# Altium footprint library HDDR_19x1_0.PcbLib: 1 footprints
Each footprint in its own frame and in the unit in brackets; x right, y up, seen from the top. Pads: shape width x height; smd on the part's side, far side on the other; paste and mask are expansions set on the pad; w line width, h text height; cw(c..) or ccw(c..) is an arc to the next point about the centre after c.
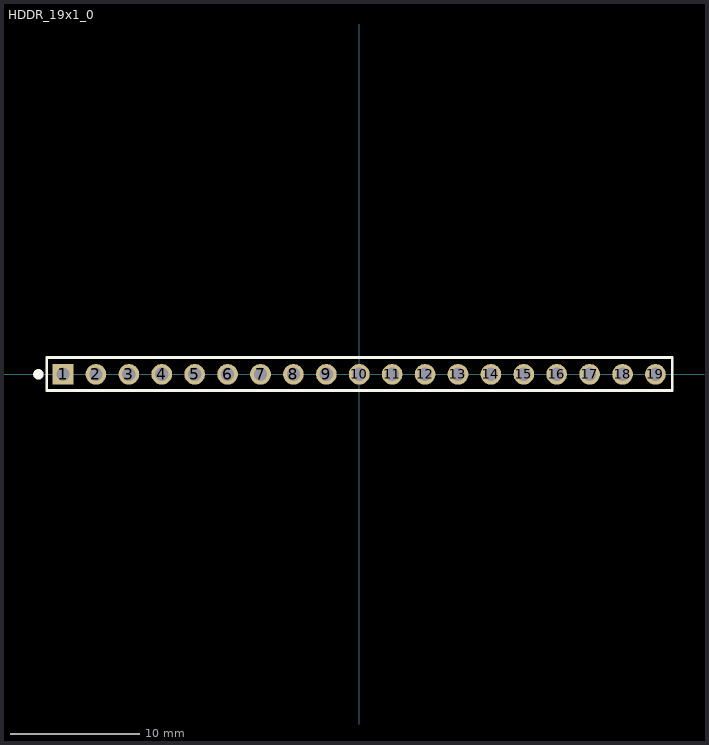
[diagram p0: the footprint, top view; thin cyan lines are the x and y axes]

## HDDR_19x1_0 [mm]
pads (19):
  rect 1.6x1.6 hole 1.02: 1(-22.86,0)
  round 1.6 hole 1.02: 2(-20.32,0) 3(-17.78,0) 4(-15.24,0) 5(-12.7,0) 6(-10.16,0) 7(-7.62,0) 8(-5.08,0) 9(-2.54,0) 10(0,0) 11(2.54,0) 12(5.08,0) 13(7.62,0) 14(10.16,0) 15(12.7,0) 16(15.24,0) 17(17.78,0) 18(20.32,0) 19(22.86,0)
Top Overlay:
  circle w0.4: c-24.76,0 r0.2
  lines w0.2: -24.11,-1.25 24.15,-1.25 24.15,1.3 -24.11,1.3 -24.11,-1.25
3D body "hddr_male_19x1.SLDPRT": height 8.54, standoff -3, extent -24.13,-1.24 24.13,1.3